# Altium footprint library KTYPE TC CONN.PcbLib: 1 footprints
Each footprint in its own frame and in the unit in brackets; x right, y up, seen from the top. Pads: shape width x height; smd on the part's side, far side on the other; paste and mask are expansions set on the pad; w line width, h text height; cw(c..) or ccw(c..) is an arc to the next point about the centre after c.
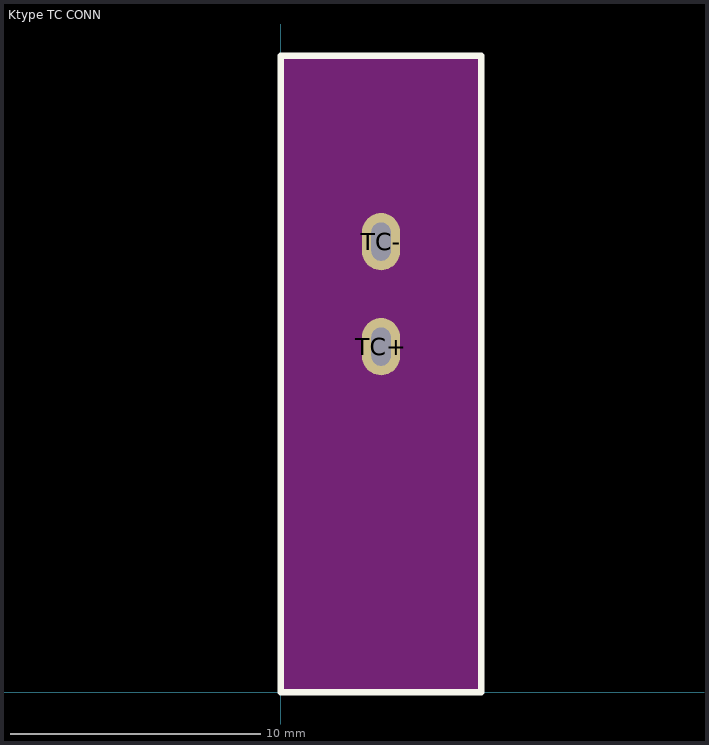
[diagram p0: the footprint, top view; thin cyan lines are the x and y axes]

## Ktype TC CONN [mil]
pads (2):
  oval 60x90 hole 60 slot 30 at 0 deg: TC+(157.5,543) TC-(157.5,708)
Top Overlay:
  lines w10: 0,0 0,1000 315,1000 315,0 0,0
Keep-Out Layer:
  region: 157.5,5
  region: 0,0 0,1000 315,1000 315,0
Mechanical 1:
  pour cut-out: -85,0